# Altium schematic symbol library SCH - DRIVER - LED - TI TPS92610-Q1PWP.SchLib: 1 symbol
Pins are listed as number, name and electrical type; pins without a type are passive.

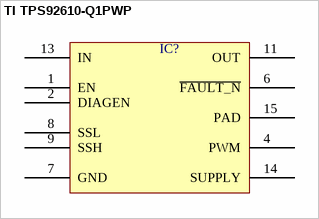
[diagram p0: symbol TI TPS92610-Q1PWP]

## TI TPS92610-Q1PWP
designator IC?  (value not drawn)
pins: 1 EN, 2 DIAGEN, 4 PWM, 6 ~{FAULT_N}, 7 GND, 8 SSL, 9 SSH, 11 OUT, 13 IN, 14 SUPPLY, 15 PAD